# Altium footprint library J 接插件.PcbLib: 458 footprints (part 9 of 29)
Each footprint in its own frame and in the unit in brackets; x right, y up, seen from the top. Pads: shape width x height; smd on the part's side, far side on the other; paste and mask are expansions set on the pad; w line width, h text height; cw(c..) or ccw(c..) is an arc to the next point about the centre after c.
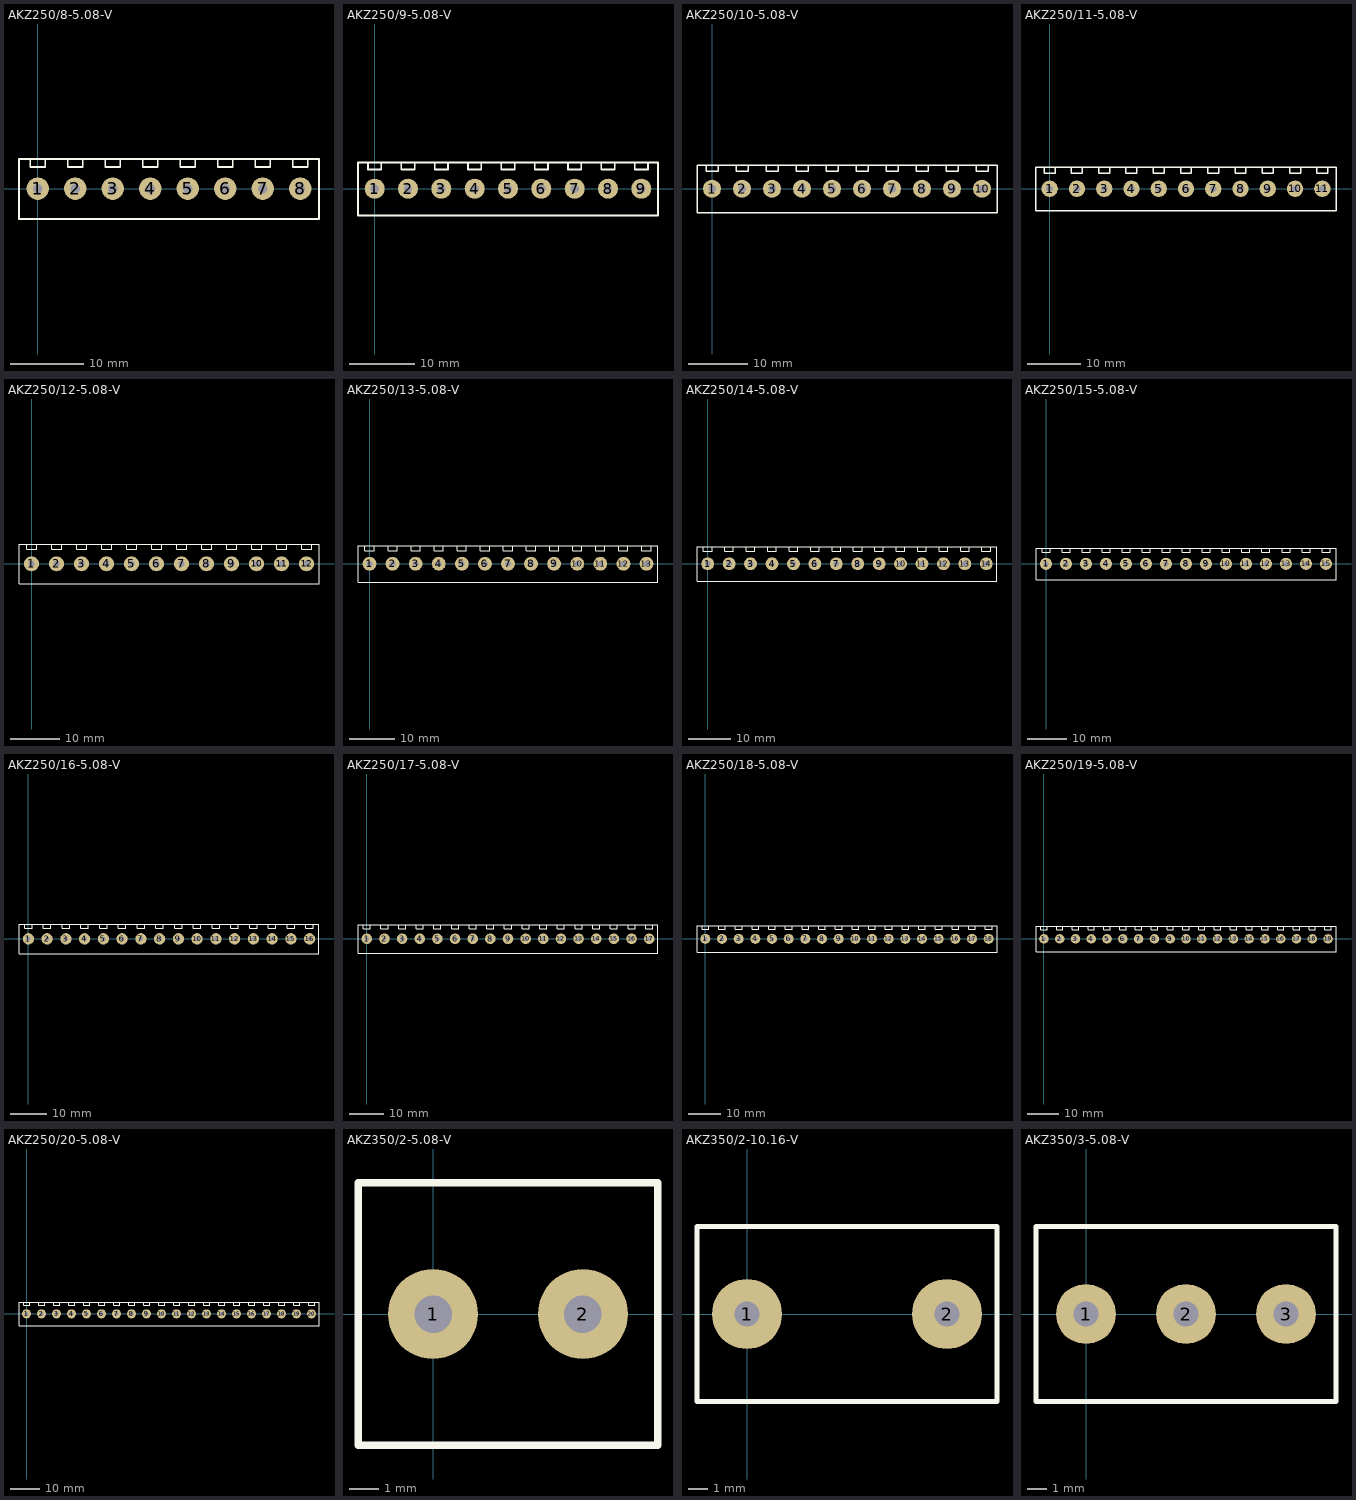
[diagram p8: the footprints below, top view; thin cyan lines are the x and y axes]

## AKZ250/8-5.08-V [mil] "美卡诺 AKZ350 接触件 间距：5.08   8Pin"
height 393.7
pads (8):
  round 120 hole 50: 1(0,0) 2(200,0) 3(400,0) 4(600,0) 5(800,0) 6(1000,0) 7(1200,0) 8(1400,0)
Top Overlay:
  lines w10: -40,155 -40,115 40,115 40,155 ; 160,155 160,115 240,115 240,155 ; 360,155 360,115 440,115 440,155 ; 560,155 560,115 640,115 640,155 ; 760,155 760,115 840,115 840,155 ; 960,155 960,115 1040,115 1040,155 ; 1160,155 1160,115 1240,115 1240,155 ; 1360,155 1360,115 1440,115 1440,155 ; -100,-161.42 -100,157.48 1500,157.48 1500,-161.42 -100,-161.42

## AKZ250/9-5.08-V [mil] "美卡诺 AKZ350 接触件 间距：5.08   9Pin"
height 393.7
pads (9):
  round 120 hole 50: 1(0,0) 2(200,0) 3(400,0) 4(600,0) 5(800,0) 6(1000,0) 7(1200,0) 8(1400,0) 9(1600,0)
Top Overlay:
  lines w10: -40,155 -40,115 40,115 40,155 ; 160,155 160,115 240,115 240,155 ; 360,155 360,115 440,115 440,155 ; 560,155 560,115 640,115 640,155 ; 760,155 760,115 840,115 840,155 ; 960,155 960,115 1040,115 1040,155 ; 1160,155 1160,115 1240,115 1240,155 ; 1360,155 1360,115 1440,115 1440,155 ; 1560,155 1560,115 1640,115 1640,155 ; -100,-161.42 1700,-161.42 1700,157.48 -100,157.48 -100,-161.42

## AKZ250/10-5.08-V [mil] "美卡诺 AKZ350 接触件 间距：5.08   10Pin"
height 393.7
pads (10):
  round 120 hole 50: 1(0,0) 2(200,0) 3(400,0) 4(600,0) 5(800,0) 6(1000,0) 7(1200,0) 8(1400,0) 9(1600,0) 10(1800,0)
Top Overlay:
  lines w10: -40,155 -40,115 40,115 40,155 ; 160,155 160,115 240,115 240,155 ; 360,155 360,115 440,115 440,155 ; 560,155 560,115 640,115 640,155 ; 760,155 760,115 840,115 840,155 ; 960,155 960,115 1040,115 1040,155 ; 1160,155 1160,115 1240,115 1240,155 ; 1360,155 1360,115 1440,115 1440,155 ; 1560,155 1560,115 1640,115 1640,155 ; 1760,155 1760,115 1840,115 1840,155 ; -100,-161.42 -100,157.48 1900,157.48 1900,-161.42 -100,-161.42

## AKZ250/11-5.08-V [mil] "美卡诺 AKZ350 接触件 间距：5.08   11Pin"
height 393.7
pads (11):
  round 120 hole 50: 1(0,0) 2(200,0) 3(400,0) 4(600,0) 5(800,0) 6(1000,0) 7(1200,0) 8(1400,0) 9(1600,0) 10(1800,0) 11(2000,0)
Top Overlay:
  lines w10: -40,155 -40,115 40,115 40,155 ; 160,155 160,115 240,115 240,155 ; 360,155 360,115 440,115 440,155 ; 560,155 560,115 640,115 640,155 ; 760,155 760,115 840,115 840,155 ; 960,155 960,115 1040,115 1040,155 ; 1160,155 1160,115 1240,115 1240,155 ; 1360,155 1360,115 1440,115 1440,155 ; 1560,155 1560,115 1640,115 1640,155 ; 1760,155 1760,115 1840,115 1840,155 ; 1960,155 1960,115 2040,115 2040,155 ; -100,-161.42 2100,-161.42 2100,157.48 -100,157.48 -100,-161.42

## AKZ250/12-5.08-V [mil] "美卡诺 AKZ350 接触件 间距：5.08   12Pin"
height 393.7
pads (12):
  round 120 hole 50: 1(0,0) 2(200,0) 3(400,0) 4(600,0) 5(800,0) 6(1000,0) 7(1200,0) 8(1400,0) 9(1600,0) 10(1800,0) 11(2000,0) 12(2200,0)
Top Overlay:
  lines w10: -40,155 -40,115 40,115 40,155 ; 160,155 160,115 240,115 240,155 ; 360,155 360,115 440,115 440,155 ; 560,155 560,115 640,115 640,155 ; 760,155 760,115 840,115 840,155 ; 960,155 960,115 1040,115 1040,155 ; 1160,155 1160,115 1240,115 1240,155 ; 1360,155 1360,115 1440,115 1440,155 ; 1560,155 1560,115 1640,115 1640,155 ; 1760,155 1760,115 1840,115 1840,155 ; 1960,155 1960,115 2040,115 2040,155 ; 2160,155 2160,115 2240,115 2240,155 ; -100,-161.42 -100,157.48 2300,157.48 2300,-161.42 -100,-161.42

## AKZ250/13-5.08-V [mil] "美卡诺 AKZ350 接触件 间距：5.08   13Pin"
height 393.7
pads (13):
  round 120 hole 50: 1(0,0) 2(200,0) 3(400,0) 4(600,0) 5(800,0) 6(1000,0) 7(1200,0) 8(1400,0) 9(1600,0) 10(1800,0) 11(2000,0) 12(2200,0) 13(2400,0)
Top Overlay:
  lines w10: -40,155 -40,115 40,115 40,155 ; 160,155 160,115 240,115 240,155 ; 360,155 360,115 440,115 440,155 ; 560,155 560,115 640,115 640,155 ; 760,155 760,115 840,115 840,155 ; 960,155 960,115 1040,115 1040,155 ; 1160,155 1160,115 1240,115 1240,155 ; 1360,155 1360,115 1440,115 1440,155 ; 1560,155 1560,115 1640,115 1640,155 ; 1760,155 1760,115 1840,115 1840,155 ; 1960,155 1960,115 2040,115 2040,155 ; 2160,155 2160,115 2240,115 2240,155 ; 2360,155 2360,115 2440,115 2440,155 ; -100,-161.42 2500,-161.42 2500,157.48 -100,157.48 -100,-161.42

## AKZ250/14-5.08-V [mil] "美卡诺 AKZ350 接触件 间距：5.08   14Pin"
height 393.7
pads (14):
  round 120 hole 50: 1(0,0) 2(200,0) 3(400,0) 4(600,0) 5(800,0) 6(1000,0) 7(1200,0) 8(1400,0) 9(1600,0) 10(1800,0) 11(2000,0) 12(2200,0) 13(2400,0) 14(2600,0)
Top Overlay:
  lines w10: -40,155 -40,115 40,115 40,155 ; 160,155 160,115 240,115 240,155 ; 360,155 360,115 440,115 440,155 ; 560,155 560,115 640,115 640,155 ; 760,155 760,115 840,115 840,155 ; 960,155 960,115 1040,115 1040,155 ; 1160,155 1160,115 1240,115 1240,155 ; 1360,155 1360,115 1440,115 1440,155 ; 1560,155 1560,115 1640,115 1640,155 ; 1760,155 1760,115 1840,115 1840,155 ; 1960,155 1960,115 2040,115 2040,155 ; 2160,155 2160,115 2240,115 2240,155 ; 2360,155 2360,115 2440,115 2440,155 ; 2560,155 2560,115 2640,115 2640,155 ; -100,-161.42 -100,157.48 2700,157.48 2700,-161.42 -100,-161.42

## AKZ250/15-5.08-V [mil] "美卡诺 AKZ350 接触件 间距：5.08   15Pin"
height 393.7
pads (15):
  round 120 hole 50: 1(0,0) 2(200,0) 3(400,0) 4(600,0) 5(800,0) 6(1000,0) 7(1200,0) 8(1400,0) 9(1600,0) 10(1800,0) 11(2000,0) 12(2200,0) 13(2400,0) 14(2600,0) 15(2800,0)
Top Overlay:
  lines w10: -40,155 -40,115 40,115 40,155 ; 160,155 160,115 240,115 240,155 ; 360,155 360,115 440,115 440,155 ; 560,155 560,115 640,115 640,155 ; 760,155 760,115 840,115 840,155 ; 960,155 960,115 1040,115 1040,155 ; 1160,155 1160,115 1240,115 1240,155 ; 1360,155 1360,115 1440,115 1440,155 ; 1560,155 1560,115 1640,115 1640,155 ; 1760,155 1760,115 1840,115 1840,155 ; 1960,155 1960,115 2040,115 2040,155 ; 2160,155 2160,115 2240,115 2240,155 ; 2360,155 2360,115 2440,115 2440,155 ; 2560,155 2560,115 2640,115 2640,155 ; 2760,155 2760,115 2840,115 2840,155 ; -100,-161.42 2900,-161.42 2900,157.48 -100,157.48 -100,-161.42

## AKZ250/16-5.08-V [mil] "美卡诺 AKZ350 接触件 间距：5.08   16Pin"
height 393.7
pads (16):
  round 120 hole 50: 1(0,0) 2(200,0) 3(400,0) 4(600,0) 5(800,0) 6(1000,0) 7(1200,0) 8(1400,0) 9(1600,0) 10(1800,0) 11(2000,0) 12(2200,0) 13(2400,0) 14(2600,0) 15(2800,0) 16(3000,0)
Top Overlay:
  lines w10: -40,155 -40,115 40,115 40,155 ; 160,155 160,115 240,115 240,155 ; 360,155 360,115 440,115 440,155 ; 560,155 560,115 640,115 640,155 ; 760,155 760,115 840,115 840,155 ; 960,155 960,115 1040,115 1040,155 ; 1160,155 1160,115 1240,115 1240,155 ; 1360,155 1360,115 1440,115 1440,155 ; 1560,155 1560,115 1640,115 1640,155 ; 1760,155 1760,115 1840,115 1840,155 ; 1960,155 1960,115 2040,115 2040,155 ; 2160,155 2160,115 2240,115 2240,155 ; 2360,155 2360,115 2440,115 2440,155 ; 2560,155 2560,115 2640,115 2640,155 ; 2760,155 2760,115 2840,115 2840,155 ; 2960,155 2960,115 3040,115 3040,155 ; -100,-161.42 3100,-161.42 3100,157.48 -100,157.48 -100,-161.42

## AKZ250/17-5.08-V [mil] "美卡诺 AKZ350 接触件 间距：5.08   17Pin"
height 393.7
pads (17):
  round 120 hole 50: 1(0,0) 2(200,0) 3(400,0) 4(600,0) 5(800,0) 6(1000,0) 7(1200,0) 8(1400,0) 9(1600,0) 10(1800,0) 11(2000,0) 12(2200,0) 13(2400,0) 14(2600,0) 15(2800,0) 16(3000,0) 17(3200,0)
Top Overlay:
  lines w10: -40,155 -40,115 40,115 40,155 ; 160,155 160,115 240,115 240,155 ; 360,155 360,115 440,115 440,155 ; 560,155 560,115 640,115 640,155 ; 760,155 760,115 840,115 840,155 ; 960,155 960,115 1040,115 1040,155 ; 1160,155 1160,115 1240,115 1240,155 ; 1360,155 1360,115 1440,115 1440,155 ; 1560,155 1560,115 1640,115 1640,155 ; 1760,155 1760,115 1840,115 1840,155 ; 1960,155 1960,115 2040,115 2040,155 ; 2160,155 2160,115 2240,115 2240,155 ; 2360,155 2360,115 2440,115 2440,155 ; 2560,155 2560,115 2640,115 2640,155 ; 2760,155 2760,115 2840,115 2840,155 ; 2960,155 2960,115 3040,115 3040,155 ; 3160,155 3160,115 3240,115 3240,155 ; -100,-161.42 3300,-161.42 3300,157.48 -100,157.48 -100,-161.42

## AKZ250/18-5.08-V [mil] "美卡诺 AKZ350 接触件 间距：5.08   18Pin"
height 393.7
pads (18):
  round 120 hole 50: 1(0,0) 2(200,0) 3(400,0) 4(600,0) 5(800,0) 6(1000,0) 7(1200,0) 8(1400,0) 9(1600,0) 10(1800,0) 11(2000,0) 12(2200,0) 13(2400,0) 14(2600,0) 15(2800,0) 16(3000,0) 17(3200,0) 18(3400,0)
Top Overlay:
  lines w10: -40,155 -40,115 40,115 40,155 ; 160,155 160,115 240,115 240,155 ; 360,155 360,115 440,115 440,155 ; 560,155 560,115 640,115 640,155 ; 760,155 760,115 840,115 840,155 ; 960,155 960,115 1040,115 1040,155 ; 1160,155 1160,115 1240,115 1240,155 ; 1360,155 1360,115 1440,115 1440,155 ; 1560,155 1560,115 1640,115 1640,155 ; 1760,155 1760,115 1840,115 1840,155 ; 1960,155 1960,115 2040,115 2040,155 ; 2160,155 2160,115 2240,115 2240,155 ; 2360,155 2360,115 2440,115 2440,155 ; 2560,155 2560,115 2640,115 2640,155 ; 2760,155 2760,115 2840,115 2840,155 ; 2960,155 2960,115 3040,115 3040,155 ; 3160,155 3160,115 3240,115 3240,155 ; 3360,155 3360,115 3440,115 3440,155 ; -100,-161.42 -100,157.48 3500,157.48 3500,-161.42 -100,-161.42

## AKZ250/19-5.08-V [mil] "美卡诺 AKZ350 接触件 间距：5.08   19Pin"
height 393.7
pads (19):
  round 120 hole 50: 1(0,0) 2(200,0) 3(400,0) 4(600,0) 5(800,0) 6(1000,0) 7(1200,0) 8(1400,0) 9(1600,0) 10(1800,0) 11(2000,0) 12(2200,0) 13(2400,0) 14(2600,0) 15(2800,0) 16(3000,0) 17(3200,0) 18(3400,0) 19(3600,0)
Top Overlay:
  lines w10: -40,155 -40,115 40,115 40,155 ; 160,155 160,115 240,115 240,155 ; 360,155 360,115 440,115 440,155 ; 560,155 560,115 640,115 640,155 ; 760,155 760,115 840,115 840,155 ; 960,155 960,115 1040,115 1040,155 ; 1160,155 1160,115 1240,115 1240,155 ; 1360,155 1360,115 1440,115 1440,155 ; 1560,155 1560,115 1640,115 1640,155 ; 1760,155 1760,115 1840,115 1840,155 ; 1960,155 1960,115 2040,115 2040,155 ; 2160,155 2160,115 2240,115 2240,155 ; 2360,155 2360,115 2440,115 2440,155 ; 2560,155 2560,115 2640,115 2640,155 ; 2760,155 2760,115 2840,115 2840,155 ; 2960,155 2960,115 3040,115 3040,155 ; 3160,155 3160,115 3240,115 3240,155 ; 3360,155 3360,115 3440,115 3440,155 ; 3560,155 3560,115 3640,115 3640,155 ; -100,-161.42 -100,157.48 3700,157.48 3700,-161.42 -100,-161.42

## AKZ250/20-5.08-V [mil] "美卡诺 AKZ350 接触件 间距：5.08   20Pin"
height 393.7
pads (20):
  round 120 hole 50: 1(0,0) 2(200,0) 3(400,0) 4(600,0) 5(800,0) 6(1000,0) 7(1200,0) 8(1400,0) 9(1600,0) 10(1800,0) 11(2000,0) 12(2200,0) 13(2400,0) 14(2600,0) 15(2800,0) 16(3000,0) 17(3200,0) 18(3400,0) 19(3600,0) 20(3800,0)
Top Overlay:
  lines w10: -40,155 -40,115 40,115 40,155 ; 160,155 160,115 240,115 240,155 ; 360,155 360,115 440,115 440,155 ; 560,155 560,115 640,115 640,155 ; 760,155 760,115 840,115 840,155 ; 960,155 960,115 1040,115 1040,155 ; 1160,155 1160,115 1240,115 1240,155 ; 1360,155 1360,115 1440,115 1440,155 ; 1560,155 1560,115 1640,115 1640,155 ; 1760,155 1760,115 1840,115 1840,155 ; 1960,155 1960,115 2040,115 2040,155 ; 2160,155 2160,115 2240,115 2240,155 ; 2360,155 2360,115 2440,115 2440,155 ; 2560,155 2560,115 2640,115 2640,155 ; 2760,155 2760,115 2840,115 2840,155 ; 2960,155 2960,115 3040,115 3040,155 ; 3160,155 3160,115 3240,115 3240,155 ; 3360,155 3360,115 3440,115 3440,155 ; 3560,155 3560,115 3640,115 3640,155 ; 3760,155 3760,115 3840,115 3840,155 ; -100,-161.42 -100,157.48 3900,157.48 3900,-161.42 -100,-161.42

## AKZ350/2-5.08-V [mil] "美卡诺 AKZ350 接触件 间距：5.08   2Pin"
height 531.5
pads (2):
  round 120 hole 50: 1(0,0) 2(200,0)
Top Overlay:
  lines w10: -100,-175 -100,175 300,175 300,-175 -100,-175

## AKZ350/2-10.16-V [mil] "美卡诺 AKZ350 接触件 间距：10.16   2Pin"
height 531.5
pads (2):
  round 140 hole 50: 1(0,0) 2(400,0)
Top Overlay:
  lines w10: -100,-175 -100,175 500,175 500,-175 -100,-175

## AKZ350/3-5.08-V [mil] "美卡诺 AKZ350 接触件 间距：5.08   3Pin"
height 531.5
pads (3):
  round 120 hole 50: 1(0,0) 2(200,0) 3(400,0)
Top Overlay:
  lines w10: -100,-175 -100,175 500,175 500,-175 -100,-175